# Altium schematic symbol library ADA4530-1ARZ.SchLib: 1 symbol
Pins are listed as number, name and electrical type; pins without a type are passive.

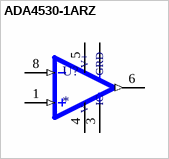
[diagram p0: symbol ADA4530-1ARZ]

## ADA4530-1ARZ
designator U?
MF: {'manufacturer': u'Analog Devices'}; MP: ADA4530-1ARZ; Package: None; Price: None; Value: *; Availability: Unavailable
footprint SOIC127P600X175-8N
pins: 1 +IN (in), 2 GRD, 3 IC, 4 V- (power), 5 V+ (power), 6 OUT (out), 7 GRD, 8 -IN (in)